# EAGLE library part S25FL128 (library S25FL)
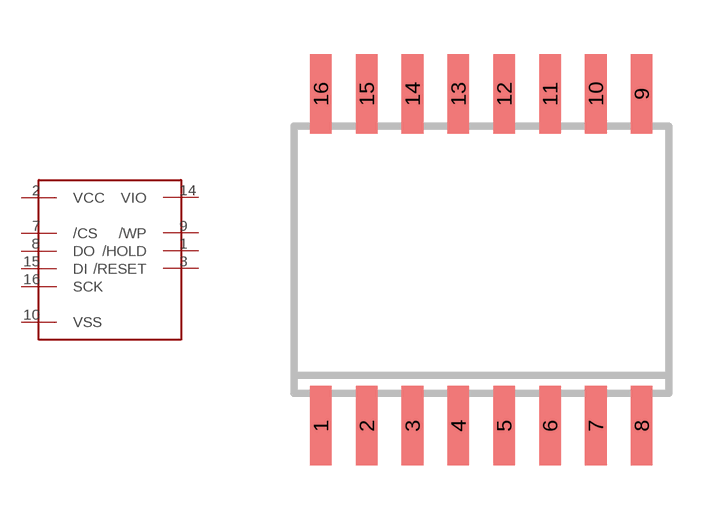
[diagram p0: symbol with the pads of SO16W; footprint SO16W]

Designator prefix -

## S25FL128  [SO16W]
1  /HOLD
2  VCC
3  /RESET
7  /CS
8  DO
9  /WP
10  VSS
14  VIO
15  DI
16  SCK

## Footprint SO16W (pad centres in mm)
SMALL OUTLINE INTEGRATED CIRCUIT wide body 7.5 mm/JEDEC MS-013AA
smd 0.6 x 2.2: 1 -4.445,-4.6; 2 -3.175,-4.6; 3 -1.905,-4.6; 4 -0.635,-4.6; 5 0.635,-4.6; 6 1.905,-4.6; 7 3.175,-4.6; 8 4.445,-4.6; 9 4.445,4.6; 10 3.175,4.6; 11 1.905,4.6; 12 0.635,4.6; 13 -0.635,4.6; 14 -1.905,4.6; 15 -3.175,4.6; 16 -4.445,4.6